# EAGLE library part TSYS01 (library meas)
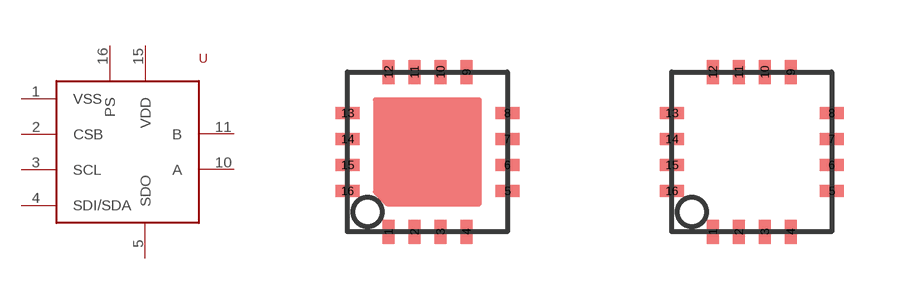
[diagram p0: symbol with the pads of TSYS01; footprints TSYS01, TSYS01_NOPAD]

Designator prefix -

## TSYS01  [TSYS01]
1  VSS
2  CSB
3  SCL
4  SDI/SDA
5  SDO
10  A
11  B
15  VDD
16  PS

## TSYS01NOPAD  [TSYS01_NOPAD]
Pads as for TSYS01

## Footprint TSYS01 (pad centres in mm)
smd 0.305 x 0.61: 1 -0.975,-2; 2 -0.325,-2; 3 0.325,-2; 4 0.975,-2; 9 0.975,2; 10 0.325,2; 11 -0.325,2; 12 -0.975,2
smd 0.61 x 0.305: 5 2,-0.975; 6 2,-0.325; 7 2,0.325; 8 2,0.975; 13 -2,0.975; 14 -2,0.325; 15 -2,-0.325; 16 -2,-0.975

## Footprint TSYS01_NOPAD (pad centres in mm)
smd 0.305 x 0.61: 1 -0.975,-2; 2 -0.325,-2; 3 0.325,-2; 4 0.975,-2; 9 0.975,2; 10 0.325,2; 11 -0.325,2; 12 -0.975,2
smd 0.61 x 0.305: 5 2,-0.975; 6 2,-0.325; 7 2,0.325; 8 2,0.975; 13 -2,0.975; 14 -2,0.325; 15 -2,-0.325; 16 -2,-0.975